# Altium schematic symbol library PIC24FJ256GB110.Schlib: 1 symbol
Pins are listed as number, name and electrical type; pins without a type are passive.

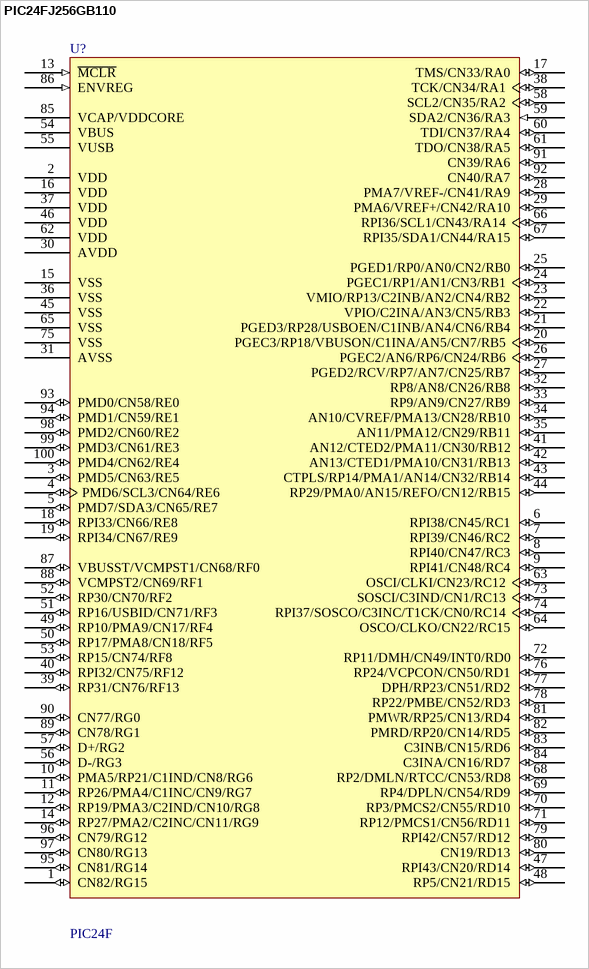
[diagram p0: symbol PIC24FJ256GB110]

## PIC24FJ256GB110
designator U?, comment PIC24F
IC, Microcontroller
pins: 1 CN82/RG15 (io), 2 VDD (power), 3 PMD5/CN63/RE5 (io), 4 PMD6/SCL3/CN64/RE6 (io), 5 PMD7/SDA3/CN65/RE7 (io), 6 RPI38/CN45/RC1 (io), 7 RPI39/CN46/RC2 (io), 8 RPI40/CN47/RC3 (io), 9 RPI41/CN48/RC4 (io), 10 PMA5/RP21/C1IND/CN8/RG6 (io), 11 RP26/PMA4/C1INC/CN9/RG7 (io), 12 RP19/PMA3/C2IND/CN10/RG8 (io), 13 ~{MCLR} (in), 14 RP27/PMA2/C2INC/CN11/RG9 (io), 15 VSS (power), 16 VDD (power), 17 TMS/CN33/RA0 (io), 18 RPI33/CN66/RE8 (io), 19 RPI34/CN67/RE9 (io), 20 PGEC3/RP18/VBUSON/C1INA/AN5/CN7/RB5 (io), 21 PGED3/RP28/USBOEN/C1INB/AN4/CN6/RB4 (io), 22 VPIO/C2INA/AN3/CN5/RB3 (io), 23 VMIO/RP13/C2INB/AN2/CN4/RB2 (io), 24 PGEC1/RP1/AN1/CN3/RB1 (io), 25 PGED1/RP0/AN0/CN2/RB0 (io), 26 PGEC2/AN6/RP6/CN24/RB6 (io), 27 PGED2/RCV/RP7/AN7/CN25/RB7 (io), 28 PMA7/VREF-/CN41/RA9 (io), 29 PMA6/VREF+/CN42/RA10 (io), 30 AVDD (power), 31 AVSS (power), 32 RP8/AN8/CN26/RB8 (io), 33 RP9/AN9/CN27/RB9 (io), 34 AN10/CVREF/PMA13/CN28/RB10 (io), 35 AN11/PMA12/CN29/RB11 (io), 36 VSS (power), 37 VDD (power), 38 TCK/CN34/RA1 (io), 39 RP31/CN76/RF13 (io), 40 RPI32/CN75/RF12 (io), 41 AN12/CTED2/PMA11/CN30/RB12 (io), 42 AN13/CTED1/PMA10/CN31/RB13 (io), 43 CTPLS/RP14/PMA1/AN14/CN32/RB14 (io), 44 RP29/PMA0/AN15/REFO/CN12/RB15 (io), 45 VSS (power), 46 VDD (power), 47 RPI43/CN20/RD14 (io), 48 RP5/CN21/RD15 (io), 49 RP10/PMA9/CN17/RF4 (io), 50 RP17/PMA8/CN18/RF5 (io), 51 RP16/USBID/CN71/RF3 (io), 52 RP30/CN70/RF2 (io), 53 RP15/CN74/RF8 (io), 54 VBUS (power), 55 VUSB (power), 56 D-/RG3 (io), 57 D+/RG2 (io), 58 SCL2/CN35/RA2 (io), 59 SDA2/CN36/RA3 (in), 60 TDI/CN37/RA4 (io), 61 TDO/CN38/RA5 (io), 62 VDD (power), 63 OSCI/CLKI/CN23/RC12 (io), 64 OSCO/CLKO/CN22/RC15 (io), 65 VSS (power), 66 RPI36/SCL1/CN43/RA14 (io), 67 RPI35/SDA1/CN44/RA15 (io), 68 RP2/DMLN/RTCC/CN53/RD8 (io), 69 RP4/DPLN/CN54/RD9 (io), 70 RP3/PMCS2/CN55/RD10 (io), 71 RP12/PMCS1/CN56/RD11 (io), 72 RP11/DMH/CN49/INT0/RD0 (io), 73 SOSCI/C3IND/CN1/RC13 (io), 74 RPI37/SOSCO/C3INC/T1CK/CN0/RC14 (io), 75 VSS (power), 76 RP24/VCPCON/CN50/RD1 (io), 77 DPH/RP23/CN51/RD2 (io), 78 RP22/PMBE/CN52/RD3 (io), 79 RPI42/CN57/RD12 (io), 80 CN19/RD13 (io), 81 PMWR/RP25/CN13/RD4 (io), 82 PMRD/RP20/CN14/RD5 (io), 83 C3INB/CN15/RD6 (io), 84 C3INA/CN16/RD7 (io), 85 VCAP/VDDCORE (power), 86 ENVREG (in), 87 VBUSST/VCMPST1/CN68/RF0 (io), 88 VCMPST2/CN69/RF1 (io), 89 CN78/RG1 (io), 90 CN77/RG0 (io), 91 CN39/RA6 (io), 92 CN40/RA7 (io), 93 PMD0/CN58/RE0 (io), 94 PMD1/CN59/RE1 (io), 95 CN81/RG14 (io), 96 CN79/RG12 (io), 97 CN80/RG13 (io), 98 PMD2/CN60/RE2 (io), 99 PMD3/CN61/RE3 (io), 100 PMD4/CN62/RE4 (io)